# EAGLE library part DIP10 (library MyLockIn)
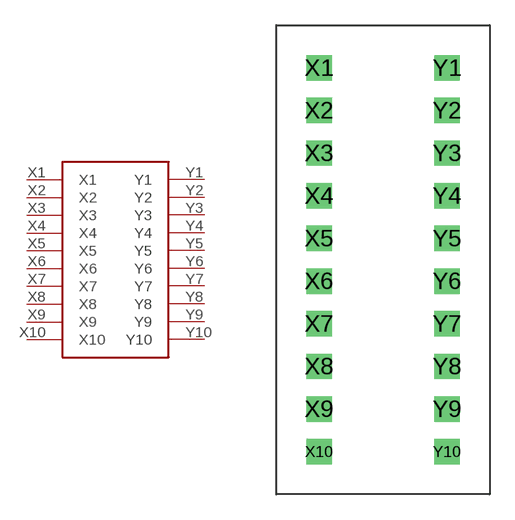
[diagram p1: symbol with the pads of DIP10; footprint DIP10]

Designator prefix -

## DIP10  [DIP10]
X1  X1
X2  X2
X3  X3
X4  X4
X5  X5
X6  X6
X7  X7
X8  X8
X9  X9
X10  X10
Y1  Y1
Y2  Y2
Y3  Y3
Y4  Y4
Y5  Y5
Y6  Y6
Y7  Y7
Y8  Y8
Y9  Y9
Y10  Y10

## Footprint DIP10 (pad centres in mm)
drill 1 square: X1 -5.08,12.7; X2 -5.08,10.16; X3 -5.08,7.62; X4 -5.08,5.08; X5 -5.08,2.54; X6 -5.08,0; X7 -5.08,-2.54; X8 -5.08,-5.08; X9 -5.08,-7.62; X10 -5.08,-10.16; Y1 2.54,12.7; Y2 2.54,10.16; Y3 2.54,7.62; Y4 2.54,5.08; Y5 2.54,2.54; Y6 2.54,0; Y7 2.54,-2.54; Y8 2.54,-5.08; Y9 2.54,-7.62; Y10 2.54,-10.16